# Altium schematic symbol library Bonding.SchLib: 3 symbols
Pins are listed as number, name and electrical type; pins without a type are passive.

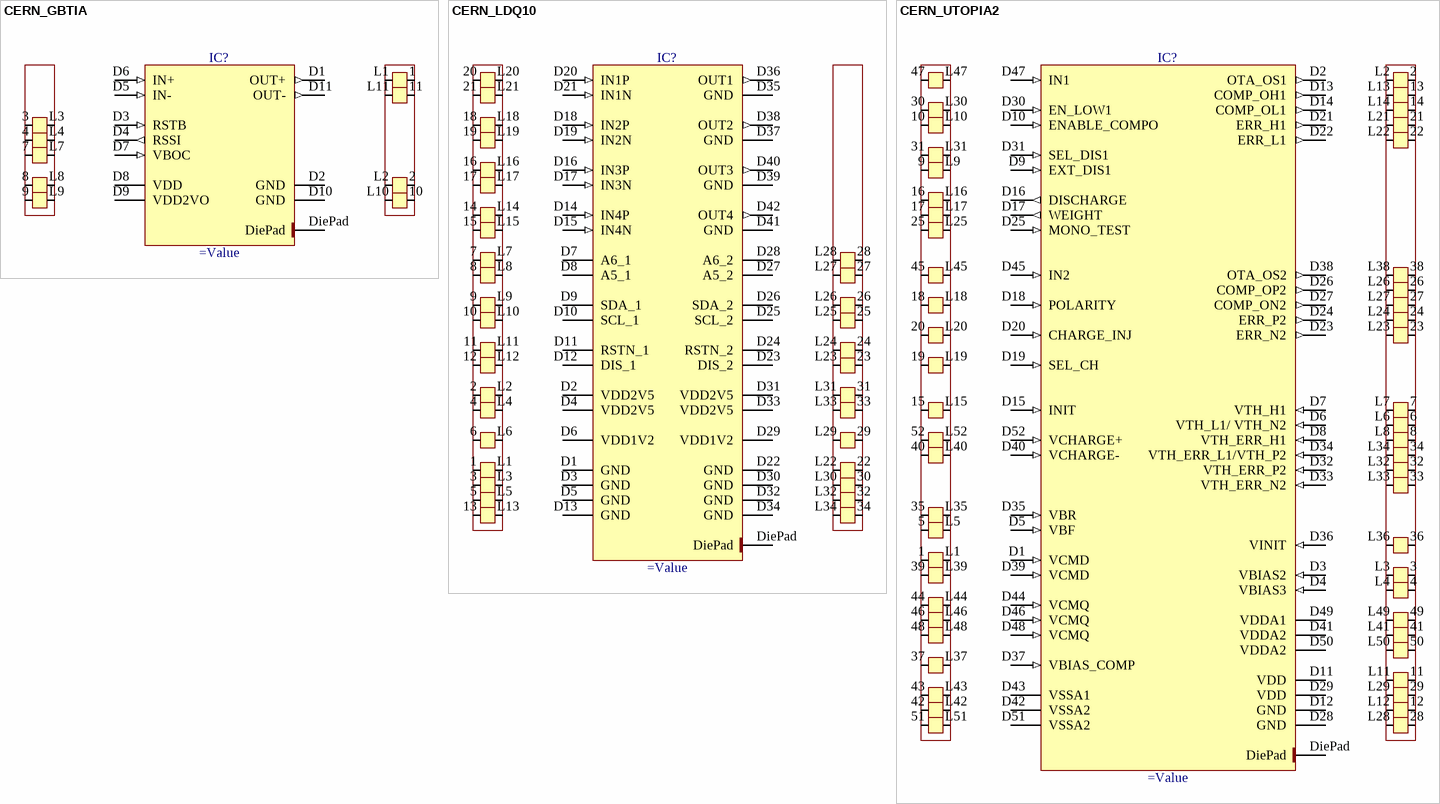
[diagram p0: symbols CERN_GBTIA to CERN_UTOPIA2]

## CERN_GBTIA
designator IC?
5 Gbit/s Radiation-Hard Optical Receiver
pins: 1, 2 (power), 3, 4, 7, 8, 9, 10 (power), 11, D1 OUT+ (out), D2 GND (power), D3 RSTB (in), D4 RSSI (out), D5 IN- (in), D6 IN+ (in), D7 VBOC (in), D8 VDD (power), D9 VDD2VO (power), D10 GND (power), D11 OUT- (out), DiePad (power), L1, L2 (power), L3, L4, L7, L8, L9, L10 (power), L11

## CERN_LDQ10
designator IC?
Quad Laser Diode Driver
pins: 1 (power), 2 (power), 3 (power), 4 (power), 5 (power), 6 (power), 7, 8, 9, 10, 11, 12, 13 (power), 14, 15, 16, 17, 18, 19, 20, 21, 22 (power), 23, 24, 25, 26, 27, 28, 29 (power), 30 (power), 31 (power), 32 (power), 33 (power), 34 (power), D1 GND (power), D2 VDD2V5 (power), D3 GND (power), D4 VDD2V5 (power), D5 GND (power), D6 VDD1V2 (power), D7 A6_1, D8 A5_1, D9 SDA_1, D10 SCL_1, D11 RSTN_1, D12 DIS_1, D13 GND (power), D14 IN4P (in), D15 IN4N (in), D16 IN3P (in), D17 IN3N (in), D18 IN2P (in), D19 IN2N (in), D20 IN1P (in), D21 IN1N (in), D22 GND (power), D23 DIS_2, D24 RSTN_2, D25 SCL_2, D26 SDA_2, D27 A5_2, D28 A6_2, D29 VDD1V2 (power), D30 GND (power), D31 VDD2V5 (power), D32 GND (power), D33 VDD2V5 (power), D34 GND (power), D35 GND (power), D36 OUT1 (out), D37 GND (power), D38 OUT2 (out), D39 GND (power), D40 OUT3 (out), D41 GND (power), D42 OUT4 (out), DiePad (power), L1 (power), L2 (power), L3 (power), L4 (power), L5 (power), L6 (power), L7, L8, L9, L10, L11, L12, L13 (power), L14, L15, L16, L17, L18, L19, L20, L21, L22 (power), L23, L24, L25, L26, L27, L28, L29 (power), L30 (power), L31 (power), L32 (power), L33 (power), L34 (power)

## CERN_UTOPIA2
designator IC?
Ultra-Low Picoammeter, Wide Dynamic Range Current To Frequency Converter For Radiation Monitoring
pins: 1, 2, 3, 4, 5, 6, 7, 8, 9, 10, 11, 12, 13, 14, 15, 16, 17, 18, 19, 20, 21, 22, 23, 24, 25, 26, 27, 28, 29, 30, 31, 32, 33, 34, 35, 36, 37, 38, 39, 40, 41, 42, 43, 44, 45, 46, 47, 48, 49, 50, 51, 52, D1 VCMD (in), D2 OTA_OS1 (out), D3 VBIAS2 (in), D4 VBIAS3 (in), D5 VBF (in), D6 VTH_L1/ VTH_N2 (in), D7 VTH_H1 (in), D8 VTH_ERR_H1 (in), D9 EXT_DIS1 (in), D10 ENABLE_COMPO (in), D11 VDD (power), D12 GND (power), D13 COMP_OH1 (out), D14 COMP_OL1 (out), D15 INIT (in), D16 DISCHARGE (out), D17 WEIGHT (out), D18 POLARITY (in), D19 SEL_CH (in), D20 CHARGE_INJ (in), D21 ERR_H1 (out), D22 ERR_L1 (out), D23 ERR_N2 (out), D24 ERR_P2 (out), D25 MONO_TEST (in), D26 COMP_OP2 (out), D27 COMP_ON2 (out), D28 GND (power), D29 VDD (power), D30 EN_LOW1 (in), D31 SEL_DIS1 (in), D32 VTH_ERR_P2 (in), D33 VTH_ERR_N2 (in), D34 VTH_ERR_L1/VTH_P2 (in), D35 VBR (in), D36 VINIT (in), D37 VBIAS_COMP (in), D38 OTA_OS2 (out), D39 VCMD (in), D40 VCHARGE- (in), D41 VDDA2 (power), D42 VSSA2 (power), D43 VSSA1 (power), D44 VCMQ (in), D45 IN2 (in), D46 VCMQ (in), D47 IN1 (in), D48 VCMQ (in), D49 VDDA1 (power), D50 VDDA2 (power), D51 VSSA2 (power), D52 VCHARGE+ (in), DiePad (power), L1, L2, L3, L4, L5, L6, L7, L8, L9, L10, L11, L12, L13, L14, L15, L16, L17, L18, L19, L20, L21, L22, L23, L24, L25, L26, L27, L28, L29, L30, L31, L32, L33, L34, L35, L36, L37, L38, L39, L40, L41, L42, L43, L44, L45, L46, L47, L48, L49, L50, L51, L52